# Altium schematic symbol library uA78MXX-TO252.SchLib: 1 symbol
Pins are listed as number, name and electrical type; pins without a type are passive.

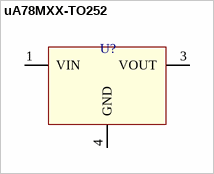
[diagram p0: symbol uA78MXX-TO252]

## uA78MXX-TO252
designator U?  (value not drawn)
pins: 1 VIN, 3 VOUT, 4 GND